# Altium integrated library FPGA Legacy Processors.IntLib: 15 symbols
Pins are listed as number, name and electrical type; pins without a type are passive.

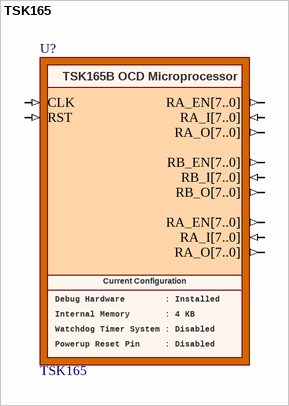
[diagram p0: symbol TSK165]

## TSK165
designator U?
TSK165 Configurable Microprocessor; NEXUS_CORE: Processor_OCDS; NEXUS_JTAG_DEVICE: True; NEXUS_JTAG_ORDER: 0; ChildModel1: TSK165B_D_RAM128x8; ConfigurationParameters: {}Version[1.0]{}Option_Processor[1]{}Option_Memory[10]{}Option_OCDS[0]{}Option_WatchDogReloadValue[0]{}Option_SeparatePowerUpReset[False]{}Option_EnableWDTS[False]{}Option_EnableInternalWDTS[False]{}Option_UnusedInputPins[0]{}Option_PortCount[3]{}ZD0A0[0]{}ZN0A0[ ]{}ZK0A0[I]{}ZT0A0[False]{}ZW0A0[L]{}ZPC0A0X[0]{}ZBC0A0Y[1]{}BD0A0Y0[0]{}BN0A0Y0[RA]{}BK0A0Y0[S]{}BT0A0Y0[True]{}BW0A0Y0[R]{}BPC0A0Y0X[8]{}PD0A0Y0X0[7]{}PN0A0Y0X0[ ]{}PK0A0Y0X0[I]{}PT0A0Y0X0[False]{}PW0A0Y0X0[L]{}PD0A0Y0X1[0]{}PN0A0Y0X1[ ]{}PK0A0Y0X1[I]{}PT0A0Y0X1[False]{}PW0A0Y0X1[L]{}PD0A0Y0X2[1]{}PN0A0Y0X2[ ]{}PK0A0Y0X2[I]{}PT0A0Y0X2[False]{}PW0A0Y0X2[L]{}PD0A0Y0X3[2]{}PN0A0Y0X3[ ]{}PK0A0Y0X3[I]{}PT0A0Y0X3[False]{}PW0A0Y0X3[L]{}PD0A0Y0X4[3]{}PN0A0Y0X4[ ]{}PK0A0Y0X4[I]{}PT0A0Y0X4[False]{}PW0A0Y0X4[L]{}PD0A0Y0X5[4]{}PN0A0Y0X5[ ]{}PK0A0Y0X5[I]{}PT0A0Y0X5[False]{}PW0A0Y0X5[L]{}PD0A0Y0X6[5]{}PN0A0Y0X6[ ]{}PK0A0Y0X6[I]{}PT0A0Y0X6[False]{}PW0A0Y0X6[L]{}PD0A0Y0X7[6]{}PN0A0Y0X7[ ]{}PK0A0Y0X7[I]{}PT0A0Y0X7[False]{}PW0A0Y0X7[L]{}ZD1A1[1]{}ZN1A1[ ]{}ZK1A1[I]{}ZT1A1[False]{}ZW1A1[L]{}ZPC1A1X[0]{}ZBC1A1Y[1]{}BD1A1Y0[0]{}BN1A1Y0[RB]{}BK1A1Y0[S]{}BT1A1Y0[True]{}BW1A1Y0[R]{}BPC1A1Y0X[8]{}PD1A1Y0X0[0]{}PN1A1Y0X0[ ]{}PK1A1Y0X0[I]{}PT1A1Y0X0[False]{}PW1A1Y0X0[L]{}PD1A1Y0X1[1]{}PN1A1Y0X1[ ]{}PK1A1Y0X1[I]{}PT1A1Y0X1[False]{}PW1A1Y0X1[L]{}PD1A1Y0X2[2]{}PN1A1Y0X2[ ]{}PK1A1Y0X2[I]{}PT1A1Y0X2[False]{}PW1A1Y0X2[L]{}PD1A1Y0X3[3]{}PN1A1Y0X3[ ]{}PK1A1Y0X3[I]{}PT1A1Y0X3[False]{}PW1A1Y0X3[L]{}PD1A1Y0X4[4]{}PN1A1Y0X4[ ]{}PK1A1Y0X4[I]{}PT1A1Y0X4[False]{}PW1A1Y0X4[L]{}PD1A1Y0X5[5]{}PN1A1Y0X5[ ]{}PK1A1Y0X5[I]{}PT1A1Y0X5[False]{}PW1A1Y0X5[L]{}PD1A1Y0X6[6]{}PN1A1Y0X6[ ]{}PK1A1Y0X6[I]{}PT1A1Y0X6[False]{}PW1A1Y0X6[L]{}PD1A1Y0X7[7]{}PN1A1Y0X7[ ]{}PK1A1Y0X7[I]{}PT1A1Y0X7[False]{}PW1A1Y0X7[L]{}ZD2A2[2]{}ZN2A2[ ]{}ZK2A2[I]{}ZT2A2[False]{}ZW2A2[L]{}ZPC2A2X[0]{}ZBC2A2Y[1]{}BD2A2Y0[0]{}BN2A2Y0[RA]{}BK2A2Y0[S]{}BT2A2Y0[True]{}BW2A2Y0[R]{}BPC2A2Y0X[8]{}PD2A2Y0X0[1]{}PN2A2Y0X0[ ]{}PK2A2Y0X0[I]{}PT2A2Y0X0[False]{}PW2A2Y0X0[L]{}PD2A2Y0X1[0]{}PN2A2Y0X1[ ]{}PK2A2Y0X1[I]{}PT2A2Y0X1[False]{}PW2A2Y0X1[L]{}PD2A2Y0X2[2]{}PN2A2Y0X2[ ]{}PK2A2Y0X2[I]{}PT2A2Y0X2[False]{}PW2A2Y0X2[L]{}PD2A2Y0X3[3]{}PN2A2Y0X3[ ]{}PK2A2Y0X3[I]{}PT2A2Y0X3[False]{}PW2A2Y0X3[L]{}PD2A2Y0X4[4]{}PN2A2Y0X4[ ]{}PK2A2Y0X4[I]{}PT2A2Y0X4[False]{}PW2A2Y0X4[L]{}PD2A2Y0X5[5]{}PN2A2Y0X5[ ]{}PK2A2Y0X5[I]{}PT2A2Y0X5[False]{}PW2A2Y0X5[L]{}PD2A2Y0X6[6]{}PN2A2Y0X6[ ]{}PK2A2Y0X6[I]{}PT2A2Y0X6[False]{}PW2A2Y0X6[L]{}PD2A2Y0X7[7]{}PN2A2Y0X7[ ]{}PK2A2Y0X7[I]{}PT2A2Y0X7[False]{}PW2A2Y0X7[L]{}; ChildModel: TSK165B_D; ChildModel2: TSK165B_D_RAM128x8_prim0; Published: 11-Oct-2005; Publisher: Altium Limited; ComponentLink1Description: Core &Resource Usage; ComponentLink1URL: CR0140 FPGA Processor Resource Usage.pdf#page=14; HelpURL: https://wiki.altium.com/display/ADOH/TSK165x+RISC+MCU; LastRevisionNo: 1.00.00; ComponentLink2Description: Embedded &Tools Guide; ComponentLink2URL: https://wiki.altium.com/download/attachments/3080693/GU0108+Using+the+TSK165x+Embedded+Tools.pdf?version=1; ComponentLink3Description: Embedded T&echnical References; ComponentLink3URL: https://wiki.altium.com/download/attachments/3080693/TR0106+TSK165x+Embedded+Tools+Reference.pdf?version=1; ConfiguratorName: TSK165
pins: CLK (in), RA_EN[7..0] (out), RA_EN[7..0] (out), RA_I[7..0] (in), RA_I[7..0] (in), RA_O[7..0] (out), RA_O[7..0] (out), RB_EN[7..0] (out), RB_I[7..0] (in), RB_O[7..0] (out), RST (in)
text: TSK165B OCD Microprocessor; Current Configuration; Debug Hardware        : Installed; Internal Memory       : 4 KB; Watchdog Timer System : Disabled; Powerup Reset Pin     : Disabled


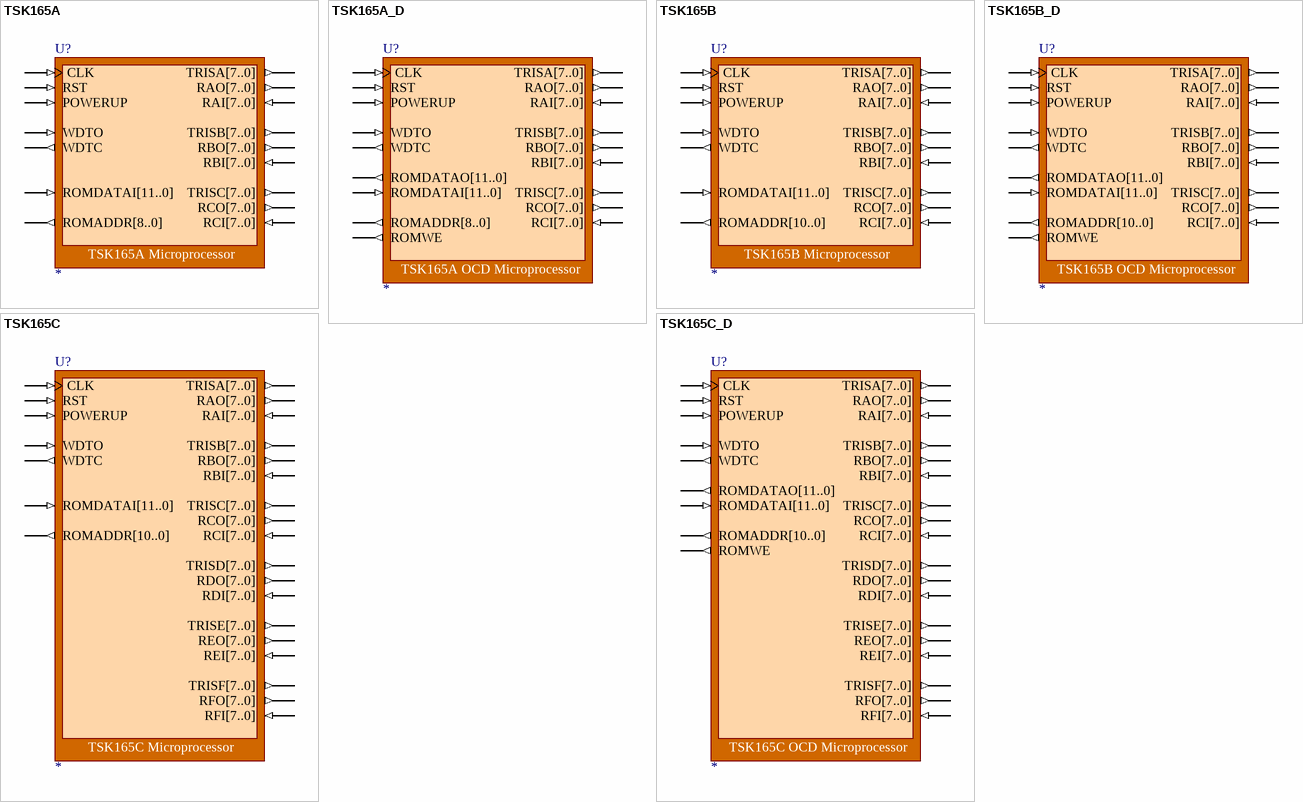
[diagram p1: symbols TSK165A to TSK165C_D]

## TSK165A
designator U?
TSK165A Microprocessor; NEXUS_CORE: Processor_Normal; ChildModel1: TSK165A_RAM32X8; ChildModel2: TSK165A_RAM32X8_prim0; Published: 17-Nov-2004; Publisher: Altium Limited; ComponentLink1Description: Core &Resource Usage; ComponentLink1URL: CR0140 FPGA Processor Resource Usage.pdf#page=16; HelpURL: https://wiki.altium.com/display/ADOH/TSK165x+RISC+MCU; LastRevisionNo: 1.00.00; ComponentLink2Description: Embedded &Tools Guide; ComponentLink2URL: https://wiki.altium.com/download/attachments/3080693/GU0108+Using+the+TSK165x+Embedded+Tools.pdf?version=1; ComponentLink3Description: Embedded T&echnical References; ComponentLink3URL: https://wiki.altium.com/download/attachments/3080693/TR0106+TSK165x+Embedded+Tools+Reference.pdf?version=1
pins: CLK (in), POWERUP (in), RAI[7..0] (in), RAO[7..0] (out), RBI[7..0] (in), RBO[7..0] (out), RCI[7..0] (in), RCO[7..0] (out), ROMADDR[8..0] (out), ROMDATAI[11..0] (in), RST (in), TRISA[7..0] (out), TRISB[7..0] (out), TRISC[7..0] (out), WDTC (out), WDTO (in)

## TSK165A_D
designator U?
TSK165A OCD Microprocessor; NEXUS_CORE: Processor_OCDS; NEXUS_JTAG_DEVICE: True; NEXUS_JTAG_ORDER: 0; ChildModel1: TSK165A_D_RAM32X8; ChildModel2: TSK165A_D_RAM32X8_prim0; Published: 17-Nov-2004; Publisher: Altium Limited; ComponentLink1Description: Core &Resource Usage; ComponentLink1URL: CR0140 FPGA Processor Resource Usage.pdf#page=17; HelpURL: https://wiki.altium.com/display/ADOH/TSK165x+RISC+MCU; LastRevisionNo: 1.00.00; ComponentLink2Description: Embedded &Tools Guide; ComponentLink2URL: https://wiki.altium.com/download/attachments/3080693/GU0108+Using+the+TSK165x+Embedded+Tools.pdf?version=1; ComponentLink3Description: Embedded T&echnical References; ComponentLink3URL: https://wiki.altium.com/download/attachments/3080693/TR0106+TSK165x+Embedded+Tools+Reference.pdf?version=1
pins: CLK (in), POWERUP (in), RAI[7..0] (in), RAO[7..0] (out), RBI[7..0] (in), RBO[7..0] (out), RCI[7..0] (in), RCO[7..0] (out), ROMADDR[8..0] (out), ROMDATAI[11..0] (in), ROMDATAO[11..0] (out), ROMWE (out), RST (in), TRISA[7..0] (out), TRISB[7..0] (out), TRISC[7..0] (out), WDTC (out), WDTO (in)

## TSK165B
designator U?
TSK165B Microprocessor; NEXUS_CORE: Processor_Normal; ChildModel1: TSK165B_RAM128x8; ChildModel2: TSK165B_RAM128x8_prim0; Published: 17-Nov-2004; Publisher: Altium Limited; ComponentLink1Description: Core &Resource Usage; ComponentLink1URL: CR0140 FPGA Processor Resource Usage.pdf#page=18; HelpURL: https://wiki.altium.com/display/ADOH/TSK165x+RISC+MCU; LastRevisionNo: 1.00.00; ComponentLink2Description: Embedded &Tools Guide; ComponentLink2URL: https://wiki.altium.com/download/attachments/3080693/GU0108+Using+the+TSK165x+Embedded+Tools.pdf?version=1; ComponentLink3Description: Embedded T&echnical References; ComponentLink3URL: https://wiki.altium.com/download/attachments/3080693/TR0106+TSK165x+Embedded+Tools+Reference.pdf?version=1
pins: CLK (in), POWERUP (in), RAI[7..0] (in), RAO[7..0] (out), RBI[7..0] (in), RBO[7..0] (out), RCI[7..0] (in), RCO[7..0] (out), ROMADDR[10..0] (out), ROMDATAI[11..0] (in), RST (in), TRISA[7..0] (out), TRISB[7..0] (out), TRISC[7..0] (out), WDTC (out), WDTO (in)

## TSK165B_D
designator U?
TSK165B OCD Microprocessor; NEXUS_CORE: Processor_OCDS; NEXUS_JTAG_DEVICE: True; NEXUS_JTAG_ORDER: 0; ChildModel1: TSK165B_D_RAM128x8; ChildModel2: TSK165B_D_RAM128x8_prim0; Published: 17-Nov-2004; Publisher: Altium Limited; ComponentLink1Description: Core &Resource Usage; ComponentLink1URL: CR0140 FPGA Processor Resource Usage.pdf#page=19; HelpURL: https://wiki.altium.com/display/ADOH/TSK165x+RISC+MCU; LastRevisionNo: 1.00.00; ComponentLink2Description: Embedded &Tools Guide; ComponentLink2URL: https://wiki.altium.com/download/attachments/3080693/GU0108+Using+the+TSK165x+Embedded+Tools.pdf?version=1; ComponentLink3Description: Embedded T&echnical References; ComponentLink3URL: https://wiki.altium.com/download/attachments/3080693/TR0106+TSK165x+Embedded+Tools+Reference.pdf?version=1
pins: CLK (in), POWERUP (in), RAI[7..0] (in), RAO[7..0] (out), RBI[7..0] (in), RBO[7..0] (out), RCI[7..0] (in), RCO[7..0] (out), ROMADDR[10..0] (out), ROMDATAI[11..0] (in), ROMDATAO[11..0] (out), ROMWE (out), RST (in), TRISA[7..0] (out), TRISB[7..0] (out), TRISC[7..0] (out), WDTC (out), WDTO (in)

## TSK165C
designator U?
TSK165C Microprocessor; NEXUS_CORE: Processor_Normal; ChildModel1: TSK165C_RAM128x8; ChildModel2: TSK165C_RAM128x8_prim0; Published: 17-Nov-2004; Publisher: Altium Limited; ComponentLink1Description: Core &Resource Usage; ComponentLink1URL: CR0140 FPGA Processor Resource Usage.pdf#page=20; HelpURL: https://wiki.altium.com/display/ADOH/TSK165x+RISC+MCU; LastRevisionNo: 1.00.00; ComponentLink2Description: Embedded &Tools Guide; ComponentLink2URL: https://wiki.altium.com/download/attachments/3080693/GU0108+Using+the+TSK165x+Embedded+Tools.pdf?version=1; ComponentLink3Description: Embedded T&echnical References; ComponentLink3URL: https://wiki.altium.com/download/attachments/3080693/TR0106+TSK165x+Embedded+Tools+Reference.pdf?version=1
pins: CLK (in), POWERUP (in), RAI[7..0] (in), RAO[7..0] (out), RBI[7..0] (in), RBO[7..0] (out), RCI[7..0] (in), RCO[7..0] (out), RDI[7..0] (in), RDO[7..0] (out), REI[7..0] (in), REO[7..0] (out), RFI[7..0] (in), RFO[7..0] (out), ROMADDR[10..0] (out), ROMDATAI[11..0] (in), RST (in), TRISA[7..0] (out), TRISB[7..0] (out), TRISC[7..0] (out), TRISD[7..0] (out), TRISE[7..0] (out), TRISF[7..0] (out), WDTC (out), WDTO (in)

## TSK165C_D
designator U?
TSK165C OCD Microprocessor; NEXUS_CORE: Processor_OCDS; NEXUS_JTAG_DEVICE: True; NEXUS_JTAG_ORDER: 0; ChildModel1: TSK165C_D_RAM128x8; ChildModel2: TSK165C_D_RAM128x8_prim0; Published: 17-Nov-2004; Publisher: Altium Limited; ComponentLink1Description: Core &Resource Usage; ComponentLink1URL: CR0140 FPGA Processor Resource Usage.pdf#page=21; HelpURL: https://wiki.altium.com/display/ADOH/TSK165x+RISC+MCU; LastRevisionNo: 1.00.00; ComponentLink2Description: Embedded &Tools Guide; ComponentLink2URL: https://wiki.altium.com/download/attachments/3080693/GU0108+Using+the+TSK165x+Embedded+Tools.pdf?version=1; ComponentLink3Description: Embedded T&echnical References; ComponentLink3URL: https://wiki.altium.com/download/attachments/3080693/TR0106+TSK165x+Embedded+Tools+Reference.pdf?version=1
pins: CLK (in), POWERUP (in), RAI[7..0] (in), RAO[7..0] (out), RBI[7..0] (in), RBO[7..0] (out), RCI[7..0] (in), RCO[7..0] (out), RDI[7..0] (in), RDO[7..0] (out), REI[7..0] (in), REO[7..0] (out), RFI[7..0] (in), RFO[7..0] (out), ROMADDR[10..0] (out), ROMDATAI[11..0] (in), ROMDATAO[11..0] (out), ROMWE (out), RST (in), TRISA[7..0] (out), TRISB[7..0] (out), TRISC[7..0] (out), TRISD[7..0] (out), TRISE[7..0] (out), TRISF[7..0] (out), WDTC (out), WDTO (in)


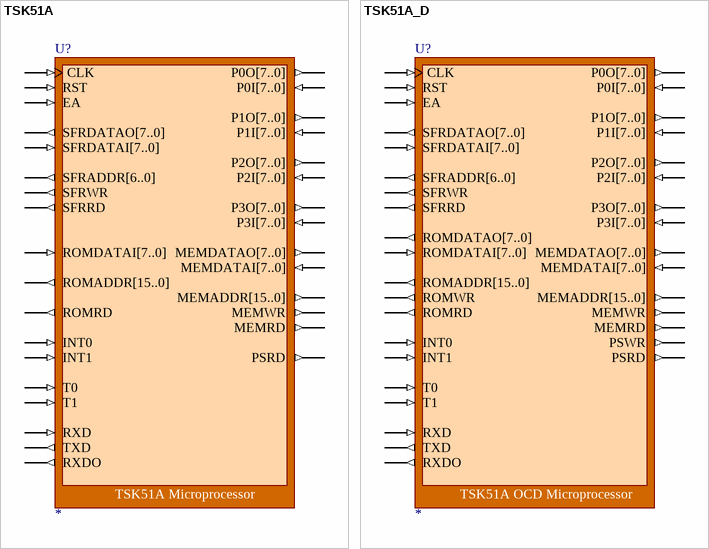
[diagram p2: symbols TSK51A to TSK51A_D]

## TSK51A
designator U?
TSK51A Microprocessor; NEXUS_CORE: Processor_Normal; ChildModel1: RAM256x8_TSK51; ChildModel2: RAM256x8_TSK51_prim0; Published: 17-Nov-2004; Publisher: Altium Limited; ComponentLink1Description: Core &Resource Usage; ComponentLink1URL: CR0140 FPGA Processor Resource Usage.pdf#page=8; HelpURL: https://wiki.altium.com/display/ADOH/TSK51x+MCU; LastRevisionNo: 1.00.00; ComponentLink2Description: Embedded &Tools Guide; ComponentLink2URL: https://wiki.altium.com/download/attachments/3080695/GU0107+Using+the+TSK51x+TSK52x+Embedded+Tools.pdf?version=1; ComponentLink3Description: Embedded T&echnical References; ComponentLink3URL: https://wiki.altium.com/download/attachments/3080695/TR0105+TSK51x+TSK52x+Embedded+Tools+Reference.pdf?version=1
pins: CLK (in), EA (in), INT0 (in), INT1 (in), MEMADDR[15..0] (out), MEMDATAI[7..0] (in), MEMDATAO[7..0] (out), MEMRD (out), MEMWR (out), P0I[7..0] (in), P0O[7..0] (out), P1I[7..0] (in), P1O[7..0] (out), P2I[7..0] (in), P2O[7..0] (out), P3I[7..0] (in), P3O[7..0] (out), PSRD (out), ROMADDR[15..0] (out), ROMDATAI[7..0] (in), ROMRD (out), RST (in), RXD (in), RXDO (out), SFRADDR[6..0] (out), SFRDATAI[7..0] (in), SFRDATAO[7..0] (out), SFRRD (out), SFRWR (out), T0 (in), T1 (in), TXD (out)

## TSK51A_D
designator U?
TSK51A OCD Microprocessor; NEXUS_CORE: Processor_OCDS; NEXUS_JTAG_DEVICE: True; NEXUS_JTAG_ORDER: 0; ChildModel1: RAM256x8_TSK51D; ChildModel2: RAM256x8_TSK51D_prim0; Published: 17-Nov-2004; Publisher: Altium Limited; ComponentLink1Description: Core &Resource Usage; ComponentLink1URL: CR0140 FPGA Processor Resource Usage.pdf#page=9; HelpURL: https://wiki.altium.com/display/ADOH/TSK51x+MCU; LastRevisionNo: 1.00.00; ComponentLink2Description: Embedded &Tools Guide; ComponentLink2URL: https://wiki.altium.com/download/attachments/3080695/GU0107+Using+the+TSK51x+TSK52x+Embedded+Tools.pdf?version=1; ComponentLink3Description: Embedded T&echnical References; ComponentLink3URL: https://wiki.altium.com/download/attachments/3080695/TR0105+TSK51x+TSK52x+Embedded+Tools+Reference.pdf?version=1
pins: CLK (in), EA (in), INT0 (in), INT1 (in), MEMADDR[15..0] (out), MEMDATAI[7..0] (in), MEMDATAO[7..0] (out), MEMRD (out), MEMWR (out), P0I[7..0] (in), P0O[7..0] (out), P1I[7..0] (in), P1O[7..0] (out), P2I[7..0] (in), P2O[7..0] (out), P3I[7..0] (in), P3O[7..0] (out), PSRD (out), PSWR (out), ROMADDR[15..0] (out), ROMDATAI[7..0] (in), ROMDATAO[7..0] (out), ROMRD (out), ROMWR (out), RST (in), RXD (in), RXDO (out), SFRADDR[6..0] (out), SFRDATAI[7..0] (in), SFRDATAO[7..0] (out), SFRRD (out), SFRWR (out), T0 (in), T1 (in), TXD (out)


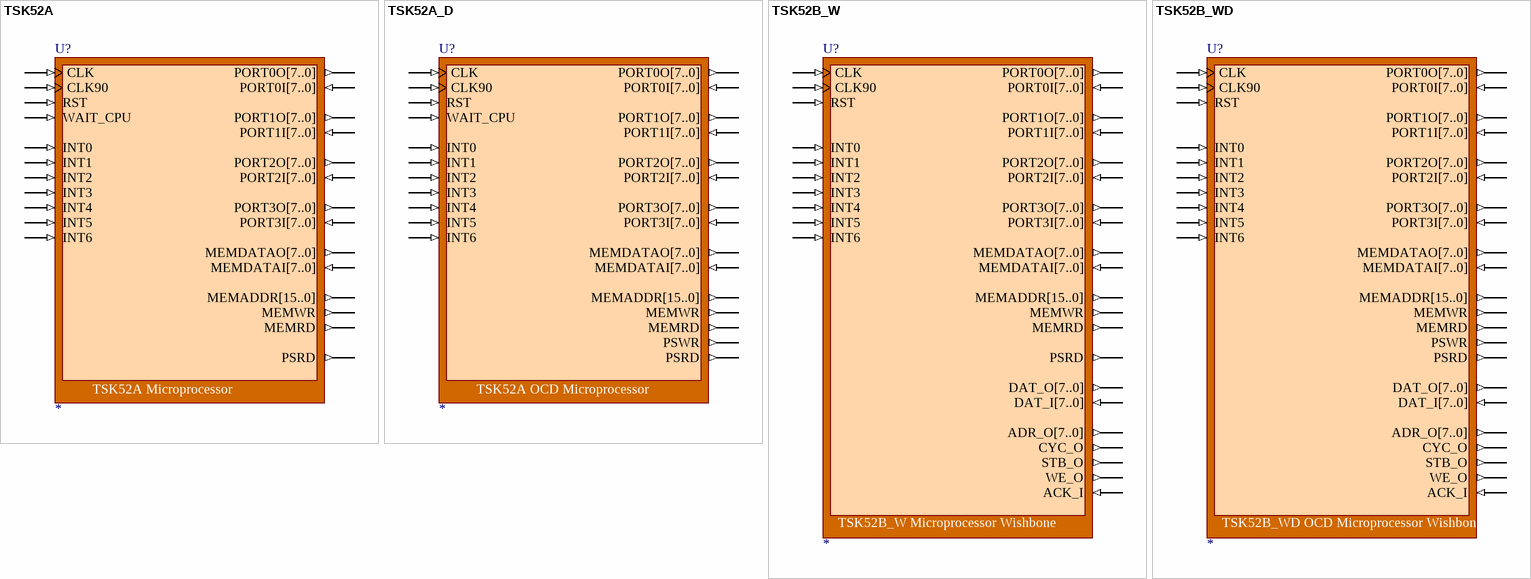
[diagram p3: symbols TSK52A to TSK52B_WD]

## TSK52A
designator U?
TSK52A Microprocessor; ChildModel1: TSK52A_DRAM8X512; NEXUS_CORE: Processor_Normal; Published: 17-Nov-2004; Publisher: Altium Limited; ComponentLink1Description: Core &Resource Usage; ComponentLink1URL: CR0140 FPGA Processor Resource Usage.pdf#page=10; HelpURL: https://wiki.altium.com/display/ADOH/TSK52x+MCU; LastRevisionNo: 1.00.00; ComponentLink2Description: Embedded &Tools Guide; ComponentLink2URL: https://wiki.altium.com/download/attachments/3080695/GU0107+Using+the+TSK51x+TSK52x+Embedded+Tools.pdf?version=1; ComponentLink3Description: Embedded T&echnical References; ComponentLink3URL: https://wiki.altium.com/download/attachments/3080695/TR0105+TSK51x+TSK52x+Embedded+Tools+Reference.pdf?version=1
pins: CLK (in), CLK90 (in), INT0 (in), INT1 (in), INT2 (in), INT3 (in), INT4 (in), INT5 (in), INT6 (in), MEMADDR[15..0] (out), MEMDATAI[7..0] (in), MEMDATAO[7..0] (out), MEMRD (out), MEMWR (out), PORT0I[7..0] (in), PORT0O[7..0] (out), PORT1I[7..0] (in), PORT1O[7..0] (out), PORT2I[7..0] (in), PORT2O[7..0] (out), PORT3I[7..0] (in), PORT3O[7..0] (out), PSRD (out), RST (in), WAIT_CPU (in)

## TSK52A_D
designator U?
TSK52A OCD Microprocessor; NEXUS_CORE: Processor_OCDS; NEXUS_JTAG_DEVICE: True; NEXUS_JTAG_ORDER: 0; ChildModel1: TSK52A_D_DRAM8X256; Published: 17-Nov-2004; Publisher: Altium Limited; ComponentLink1Description: Core &Resource Usage; ComponentLink1URL: CR0140 FPGA Processor Resource Usage.pdf#page=11; HelpURL: https://wiki.altium.com/display/ADOH/TSK52x+MCU; LastRevisionNo: 1.00.00; ComponentLink2Description: Embedded &Tools Guide; ComponentLink2URL: https://wiki.altium.com/download/attachments/3080695/GU0107+Using+the+TSK51x+TSK52x+Embedded+Tools.pdf?version=1; ComponentLink3Description: Embedded T&echnical References; ComponentLink3URL: https://wiki.altium.com/download/attachments/3080695/TR0105+TSK51x+TSK52x+Embedded+Tools+Reference.pdf?version=1
pins: CLK (in), CLK90 (in), INT0 (in), INT1 (in), INT2 (in), INT3 (in), INT4 (in), INT5 (in), INT6 (in), MEMADDR[15..0] (out), MEMDATAI[7..0] (in), MEMDATAO[7..0] (out), MEMRD (out), MEMWR (out), PORT0I[7..0] (in), PORT0O[7..0] (out), PORT1I[7..0] (in), PORT1O[7..0] (out), PORT2I[7..0] (in), PORT2O[7..0] (out), PORT3I[7..0] (in), PORT3O[7..0] (out), PSRD (out), PSWR (out), RST (in), WAIT_CPU (in)

## TSK52B_W
designator U?
TSK52B_W Microprocessor Wishbone; NEXUS_CORE: Processor_Normal; ChildModel1: TSK52A_DRAM8X512; Published: 17-Nov-2004; Publisher: Altium Limited; ComponentLink1Description: Core &Resource Usage; ComponentLink1URL: CR0140 FPGA Processor Resource Usage.pdf#page=12; HelpURL: https://wiki.altium.com/display/ADOH/TSK52x+MCU; LastRevisionNo: 1.00.00; ComponentLink2Description: Embedded &Tools Guide; ComponentLink2URL: https://wiki.altium.com/download/attachments/3080695/GU0107+Using+the+TSK51x+TSK52x+Embedded+Tools.pdf?version=1; ComponentLink3Description: Embedded T&echnical References; ComponentLink3URL: https://wiki.altium.com/download/attachments/3080695/TR0105+TSK51x+TSK52x+Embedded+Tools+Reference.pdf?version=1
pins: ACK_I (in), ADR_O[7..0] (out), CLK (in), CLK90 (in), CYC_O (out), DAT_I[7..0] (in), DAT_O[7..0] (out), INT0 (in), INT1 (in), INT2 (in), INT3 (in), INT4 (in), INT5 (in), INT6 (in), MEMADDR[15..0] (out), MEMDATAI[7..0] (in), MEMDATAO[7..0] (out), MEMRD (out), MEMWR (out), PORT0I[7..0] (in), PORT0O[7..0] (out), PORT1I[7..0] (in), PORT1O[7..0] (out), PORT2I[7..0] (in), PORT2O[7..0] (out), PORT3I[7..0] (in), PORT3O[7..0] (out), PSRD (out), RST (in), STB_O (out), WE_O (out)

## TSK52B_WD
designator U?
TSK52B_WD OCD Microprocessor Wishbone; NEXUS_CORE: Processor_OCDS; NEXUS_JTAG_DEVICE: True; NEXUS_JTAG_ORDER: 0; ChildModel1: TSK52B_WD_DRAM8X256; Published: 17-Nov-2004; Publisher: Altium Limited; ComponentLink1Description: Core &Resource Usage; ComponentLink1URL: CR0140 FPGA Processor Resource Usage.pdf#page=13; HelpURL: https://wiki.altium.com/display/ADOH/TSK52x+MCU; LastRevisionNo: 1.00.00; ComponentLink2Description: Embedded &Tools Guide; ComponentLink2URL: https://wiki.altium.com/download/attachments/3080695/GU0107+Using+the+TSK51x+TSK52x+Embedded+Tools.pdf?version=1; ComponentLink3Description: Embedded T&echnical References; ComponentLink3URL: https://wiki.altium.com/download/attachments/3080695/TR0105+TSK51x+TSK52x+Embedded+Tools+Reference.pdf?version=1
pins: ACK_I (in), ADR_O[7..0] (out), CLK (in), CLK90 (in), CYC_O (out), DAT_I[7..0] (in), DAT_O[7..0] (out), INT0 (in), INT1 (in), INT2 (in), INT3 (in), INT4 (in), INT5 (in), INT6 (in), MEMADDR[15..0] (out), MEMDATAI[7..0] (in), MEMDATAO[7..0] (out), MEMRD (out), MEMWR (out), PORT0I[7..0] (in), PORT0O[7..0] (out), PORT1I[7..0] (in), PORT1O[7..0] (out), PORT2I[7..0] (in), PORT2O[7..0] (out), PORT3I[7..0] (in), PORT3O[7..0] (out), PSRD (out), PSWR (out), RST (in), STB_O (out), WE_O (out)


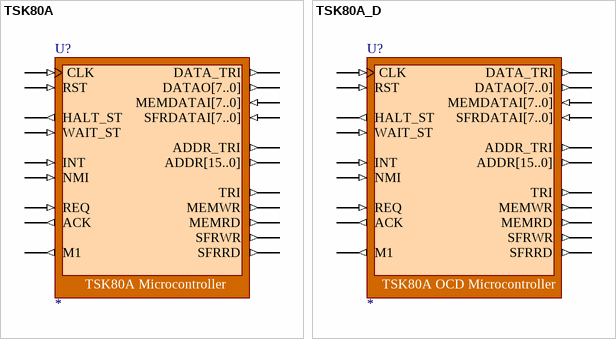
[diagram p4: symbols TSK80A to TSK80A_D]

## TSK80A
designator U?
TSK80A Microcontroller; NEXUS_CORE: Processor_Normal; Published: 17-Nov-2004; Publisher: Altium Limited; ComponentLink1Description: Core &Resource Usage; ComponentLink1URL: CR0140 FPGA Processor Resource Usage.pdf#page=14; HelpURL: https://wiki.altium.com/display/ADOH/TSK80x+MCU; LastRevisionNo: 1.00.00; ComponentLink2Description: Embedded &Tools Guide; ComponentLink2URL: https://wiki.altium.com/download/attachments/3080697/GU0109+Using+the+TSK80x+Embedded+Tools.pdf?version=1; ComponentLink3Description: Embedded T&echnical References; ComponentLink3URL: https://wiki.altium.com/download/attachments/3080697/TR0107+TSK80x+Embedded+Tools+Reference.pdf?version=1
pins: ACK (out), ADDR[15..0] (out), ADDR_TRI (out), CLK (in), DATA_TRI (out), DATAO[7..0] (out), HALT_ST (out), INT (in), M1 (out), MEMDATAI[7..0] (in), MEMRD (out), MEMWR (out), NMI (in), REQ (in), RST (in), SFRDATAI[7..0] (in), SFRRD (out), SFRWR (out), TRI (out), WAIT_ST (in)

## TSK80A_D
designator U?
TSK80A OCD Microcontroller; NEXUS_CORE: Processor_OCDS; NEXUS_JTAG_DEVICE: True; NEXUS_JTAG_ORDER: 0; Published: 17-Nov-2004; Publisher: Altium Limited; ComponentLink1Description: Core &Resource Usage; ComponentLink1URL: CR0140 FPGA Processor Resource Usage.pdf#page=15; HelpURL: https://wiki.altium.com/display/ADOH/TSK80x+MCU; LastRevisionNo: 1.00.00; ComponentLink2Description: Embedded &Tools Guide; ComponentLink2URL: https://wiki.altium.com/download/attachments/3080697/GU0109+Using+the+TSK80x+Embedded+Tools.pdf?version=1; ComponentLink3Description: Embedded T&echnical References; ComponentLink3URL: https://wiki.altium.com/download/attachments/3080697/TR0107+TSK80x+Embedded+Tools+Reference.pdf?version=1
pins: ACK (out), ADDR[15..0] (out), ADDR_TRI (out), CLK (in), DATA_TRI (out), DATAO[7..0] (out), HALT_ST (out), INT (in), M1 (out), MEMDATAI[7..0] (in), MEMRD (out), MEMWR (out), NMI (in), REQ (in), RST (in), SFRDATAI[7..0] (in), SFRRD (out), SFRWR (out), TRI (out), WAIT_ST (in)